# Altium footprint library 电容.PcbLib: 62 footprints (part 3 of 4)
Each footprint in its own frame and in the unit in brackets; x right, y up, seen from the top. Pads: shape width x height; smd on the part's side, far side on the other; paste and mask are expansions set on the pad; w line width, h text height; cw(c..) or ccw(c..) is an arc to the next point about the centre after c.
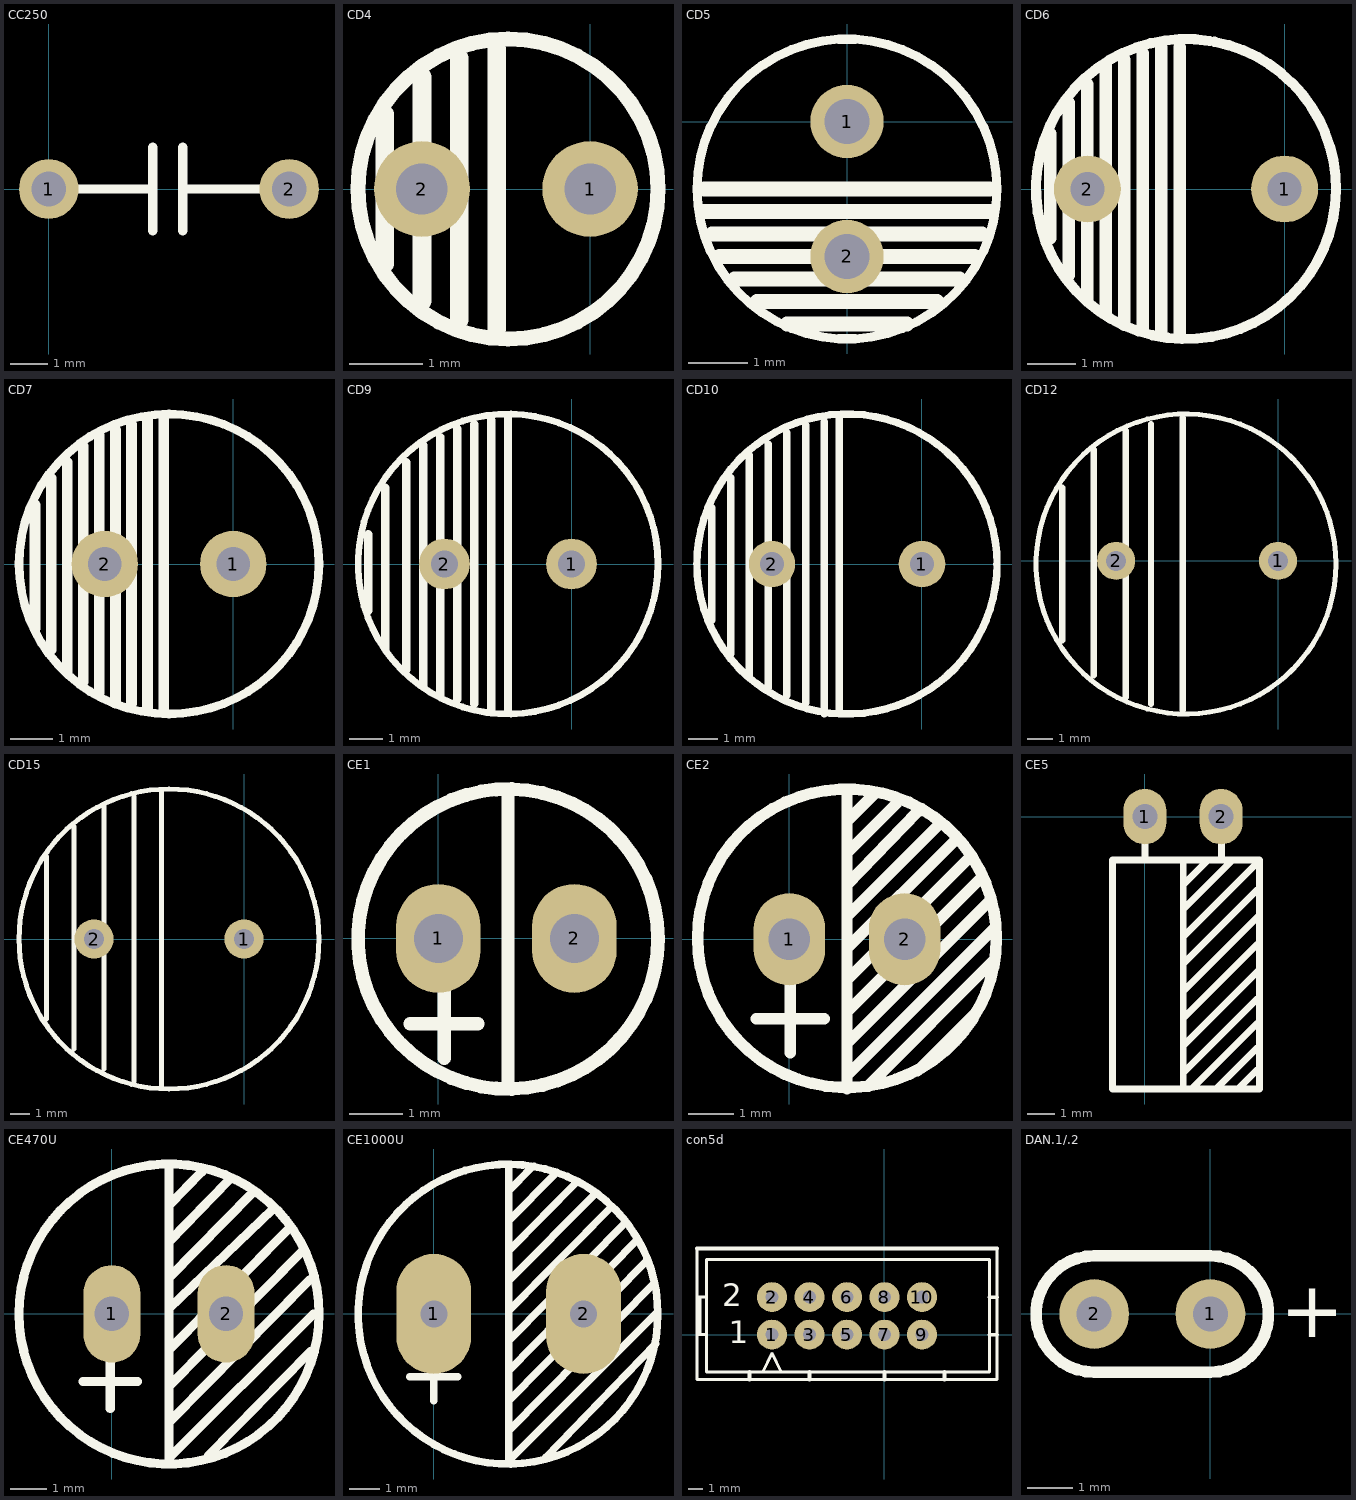
[diagram p2: the footprints below, top view; thin cyan lines are the x and y axes]

## CC250 [mil]
pads (2):
  round 62 hole 36: 1(0,0) 2(250,0)
Top Overlay:
  lines w9.84: 25,0 107.99,0 ; 107.99,-43.31 107.99,43.31 ; 139.49,-43.31 139.49,43.31 ; 139.49,0 225,0

## CD4 [mm]
pads (2):
  round 1.3 hole 0.7: 1(0,0) 2(-2.286,0)
Top Overlay:
  circle w0.203: c-1.116,0 r2.04
  lines w0.254: -2.794,-1.016 -2.794,1.016 ; -2.286,-1.524 -2.286,1.524 ; -1.778,-1.778 -1.778,1.778 ; -1.27,-1.905 -1.27,1.905

## CD5 [mm]
pads (2):
  round 1.24 hole 0.762: 1(0,0) 2(0,-2.286)
Top Overlay:
  circle w0.154: c0,-1.143 r2.54
  lines w0.254: -2.413,-1.524 2.413,-1.524 ; -2.413,-1.143 2.413,-1.143 ; -2.286,-1.905 2.286,-1.905 ; -2.159,-2.286 2.159,-2.286 ; -1.905,-2.667 1.905,-2.667 ; -1.524,-3.048 1.524,-3.048 ; -1.016,-3.429 1.016,-3.429

## CD6 [mm]
pads (2):
  round 1.38 hole 0.7: 1(0,0) 2(-4.064,0)
Top Overlay:
  lines w0.21: -1.549,3.052 ccw(c-2.032,0) -1.442,3.033
  lines w0.254: -4.826,-1.016 -4.826,1.143 ; -4.445,-1.778 -4.445,1.778 ; -4.064,-2.286 -4.064,2.159 ; -3.683,-2.54 -3.683,2.54 ; -3.302,-2.794 -3.302,2.667 ; -2.921,-2.921 -2.921,2.794 ; -2.54,-2.921 -2.54,2.921 ; -2.159,-3.048 -2.159,2.921

## CD7 [mil]
pads (2):
  round 62 hole 31.5: 1(0,0) 2(-120,0)
Top Overlay:
  circle w8: c-60,0 r140
  lines w10: -185,-60 -185,55 ; -170,-80 -170,80 ; -155,-100 -155,95 ; -140,-110 -140,110 ; -125,-120 -125,120 ; -110,-130 -110,125 ; -95,-130 -95,130 ; -80,-135 -80,135 ; -65,-135 -65,135

## CD9 [mil]
pads (2):
  round 60 hole 31.5: 1(0,0) 2(-150,0)
Top Overlay:
  circle w7.87: c-75,0 r177.16
  lines w10: -240,-55 -240,35 ; -220,-100 -220,90 ; -195,-125 -195,120 ; -175,-145 -175,140 ; -155,-155 -155,150 ; -135,-160 -135,160 ; -115,-165 -115,165 ; -95,-175 -95,170 ; -75,-175 -75,175

## CD10 [mil]
pads (2):
  round 62 hole 31.5: 1(0,0) 2(-200,0)
Top Overlay:
  circle w10: c-100,0 r200
  lines w10: -280,-75 -280,75 ; -255,-120 -255,115 ; -230,-150 -230,145 ; -205,-165 -205,160 ; -180,-175 -180,175 ; -155,-185 -155,185 ; -130,-200 -130,190 ; -110,-200 -110,195

## CD12 [mil]
pads (2):
  round 60 hole 31.5: 1(0,0) 2(-255,0)
Top Overlay:
  circle w7.87: c-145,-5 r236.22
  lines w10: -340,-125 -340,115 ; -290,-180 -290,175 ; -240,-215 -240,205 ; -200,-225 -200,215 ; -150,-235 -150,225

## CD15 [mm]
pads (2):
  round 2 hole 1: 1(0,0) 2(-7.62,0)
Top Overlay:
  circle w0.254: c-3.81,0 r7.62
  lines w0.254: -10.033,-4.064 -10.033,4.191 ; -8.636,-5.588 -8.636,5.715 ; -7.112,-6.604 -7.112,6.731 ; -5.588,-7.239 -5.588,7.239 ; -4.191,-7.493 -4.191,7.493

## CE1 [mil]
pads (2):
  oval 62x80 hole 36: 1(0,0) 2(100,0)
Top Overlay:
  circle w10: c51.18,-0.48 r110.24
  lines w9.84: -20.87,-62.68 29.13,-62.68 ; 4.25,-88.19 4.25,-38.19 ; 51.18,-106.3 51.18,106.3

## CE2 [mil]
pads (2):
  oval 62x80 hole 36: 1(0,0) 2(100,0)
Top Overlay:
  circle w10: c50,0.8 r129.51
  lines w9.84: -28.74,-68.9 30.32,-68.9 ; 0.79,-98.42 0.79,-39.37 ; 50,-129.92 50,129.92 ; 50,-118.11 177.95,9.84 ; 50,-90.55 174.02,33.47 ; 50,-62.99 166.14,53.15 ; 50,-35.43 156.3,70.87 ; 50,-7.87 144.49,86.61 ; 50,19.68 130.71,100.39 ; 50,47.24 111.02,110.24 ; 50,74.8 93.31,118.11 ; 50,102.36 73.62,125.98 ; 69.69,-125.98 177.95,-17.72 ; 111.02,-114.17 162.21,-62.99

## CE5 [mil]
pads (2):
  oval 62x80 hole 36: 1(0,0) 2(110.24,0)
Top Overlay:
  lines w9.84: 0.46,-62.67 0.46,0.32 ; 55.58,-393.38 55.58,-62.67 ; 55.58,-369.76 161.87,-263.46 ; 55.58,-330.39 161.87,-224.09 ; 55.58,-291.02 161.87,-184.72 ; 55.58,-251.65 161.87,-145.35 ; 55.58,-212.28 161.87,-105.98 ; 55.58,-172.91 161.87,-66.61 ; 55.58,-133.53 126.44,-62.67 ; 55.58,-98.1 91.01,-62.67 ; 67.39,-393.38 161.87,-298.89 ; 102.82,-393.38 161.87,-334.32 ; 110.69,-62.67 110.69,0.32 ; 134.31,-393.38 161.87,-365.82 ; -46.79,-393.38 -46.79,-62.67 165.81,-62.67 165.81,-393.38 -46.79,-393.38

## CE470U [mm]
pads (2):
  oval 1.575x2.7 hole 0.95: 1(0,0) 2(3.16,0)
Top Overlay:
  circle w0.254: c1.581,-0.005 r4.15
  lines w0.25: -0.795,-1.875 0.705,-1.875 ; -0.045,-2.625 -0.045,-1.125 ; 1.58,-3 5.49,0.95 ; 1.58,-2 5.24,1.7 ; 1.58,-1 4.87,2.33 ; 1.58,1 3.89,3.35 ; 1.58,2 3.23,3.69 ; 1.58,3 2.49,3.93 ; 1.58,4 1.58,-4 5.58,0 ; 1.581,0.145 4.456,2.895 ; 2.67,-3.92 5.5,-1.04

## CE1000U [mm]
pads (2):
  oval 2.5x4 hole 0.9: 1(0,0) 2(5,0)
Top Overlay:
  circle w0.254: c2.477,-0.009 r5
  lines w0.25: -0.8,-2.1 0.8,-2.1 ; 0,-2.9 0,-1.3 ; 2.5,-5 2.5,5 ; 2.5,-4.9 7.4,0 ; 2.5,-3.9 7.34,1 ; 2.5,-2.9 7.11,1.77 ; 2.5,-1.9 6.76,2.44 ; 2.5,-0.9 6.39,3.04 ; 2.5,0.1 5.91,3.55 ; 2.5,1.1 5.38,4.01 ; 2.5,2.1 4.77,4.4 ; 2.5,3.1 4.05,4.67 ; 2.5,4.1 3.26,4.88 ; 3.74,-4.79 7.4,-1

## con5d [mil]
pads (10):
  round 80 hole 35: 1(-300,0) 2(-300,100) 3(-200,0) 4(-200,100) 5(-100,0) 6(-100,100) 7(0,0) 8(0,100) 9(100,0) 10(100,100)
Top Overlay:
  lines w8: -500,0 -475,0 ; -500,100 -475,100 ; -500,230 -500,-120 300,-120 300,230 ; -491.67,0 -491.67,100 ; -325,-100 -300,-50 -275,-100 ; -475,-100 -475,200 280,200 280,-100 75,-100 -75,-100 -475,-100
  lines w10: -500,230 300,230 ; -360,-120 -360,-100 ; -200,-120 -200,-100 ; 0,-120 0,-100 ; 160,-120 160,-100 ; 280,0 300,0 ; 280,100 300,100
  text "1" at -415,-23 h60
  text "2" at -432,76 h60

## DAN.1/.2 [mil]
pads (2):
  round 60 hole 30: 1(0,0) 2(-100,0)
Top Overlay:
  lines w10: -100,-50 cw(c-100,0) -100,50 0,50 cw(c0,0) 0,-50 -100,-50
  text "+" at 60,-20 h48